# EAGLE library part FT231X (library ICs)
FTDI FT231X Full Speed USB to Full-handshake UART
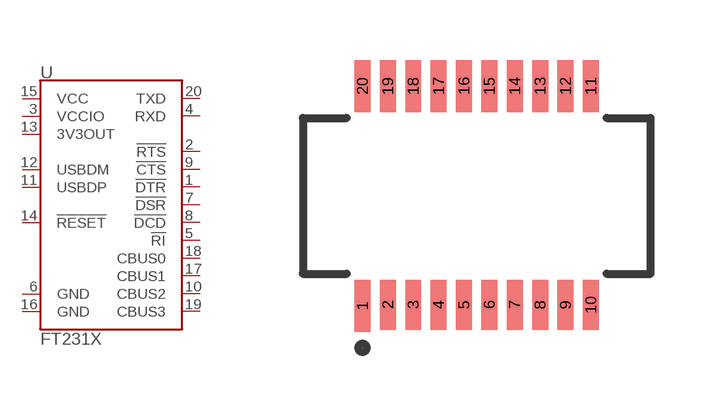
[diagram p2: symbol with the pads of SSOP20_L; footprint SSOP20_L]

Designator prefix U

## FT231XS (MFG: FTDI; PN: FT231XS-R; VALUE: FT231XS)  [SSOP20_L]
1  !DTR
2  !RTS
3  VCCIO
4  RXD
5  !RI
6  GND
7  !DSR
8  !DCD
9  !CTS
10  CBUS2
11  USBDP
12  USBDM
13  3V3OUT
14  !RESET
15  VCC
16  GND
17  CBUS1
18  CBUS0
19  CBUS3
20  TXD

## Footprint SSOP20_L (pad centres in mm)
SSOP-20 -Long Version Specifications: Pin count:20 Example device(s): FT231X
smd 0.4 x 1.3: 1 -2.857,-2.75; 11 2.857,2.75; 12 2.223,2.75; 13 1.587,2.75; 14 0.953,2.75; 15 0.318,2.75; 16 -0.318,2.75; 17 -0.953,2.75; 18 -1.587,2.75; 19 -2.223,2.75; 20 -2.857,2.75
smd 0.4 x 1.25: 2 -2.223,-2.725; 3 -1.587,-2.725; 4 -0.953,-2.725; 5 -0.318,-2.725; 6 0.318,-2.725; 7 0.953,-2.725; 8 1.587,-2.725; 9 2.223,-2.725; 10 2.857,-2.725